# EAGLE library part IC_AM335X_ZCZ_AM33XX_15X15_XAM3 (library BeagleBone_Black_egl)
IC_AM335X_ZCZ_AM33XX_15X15_XAM3
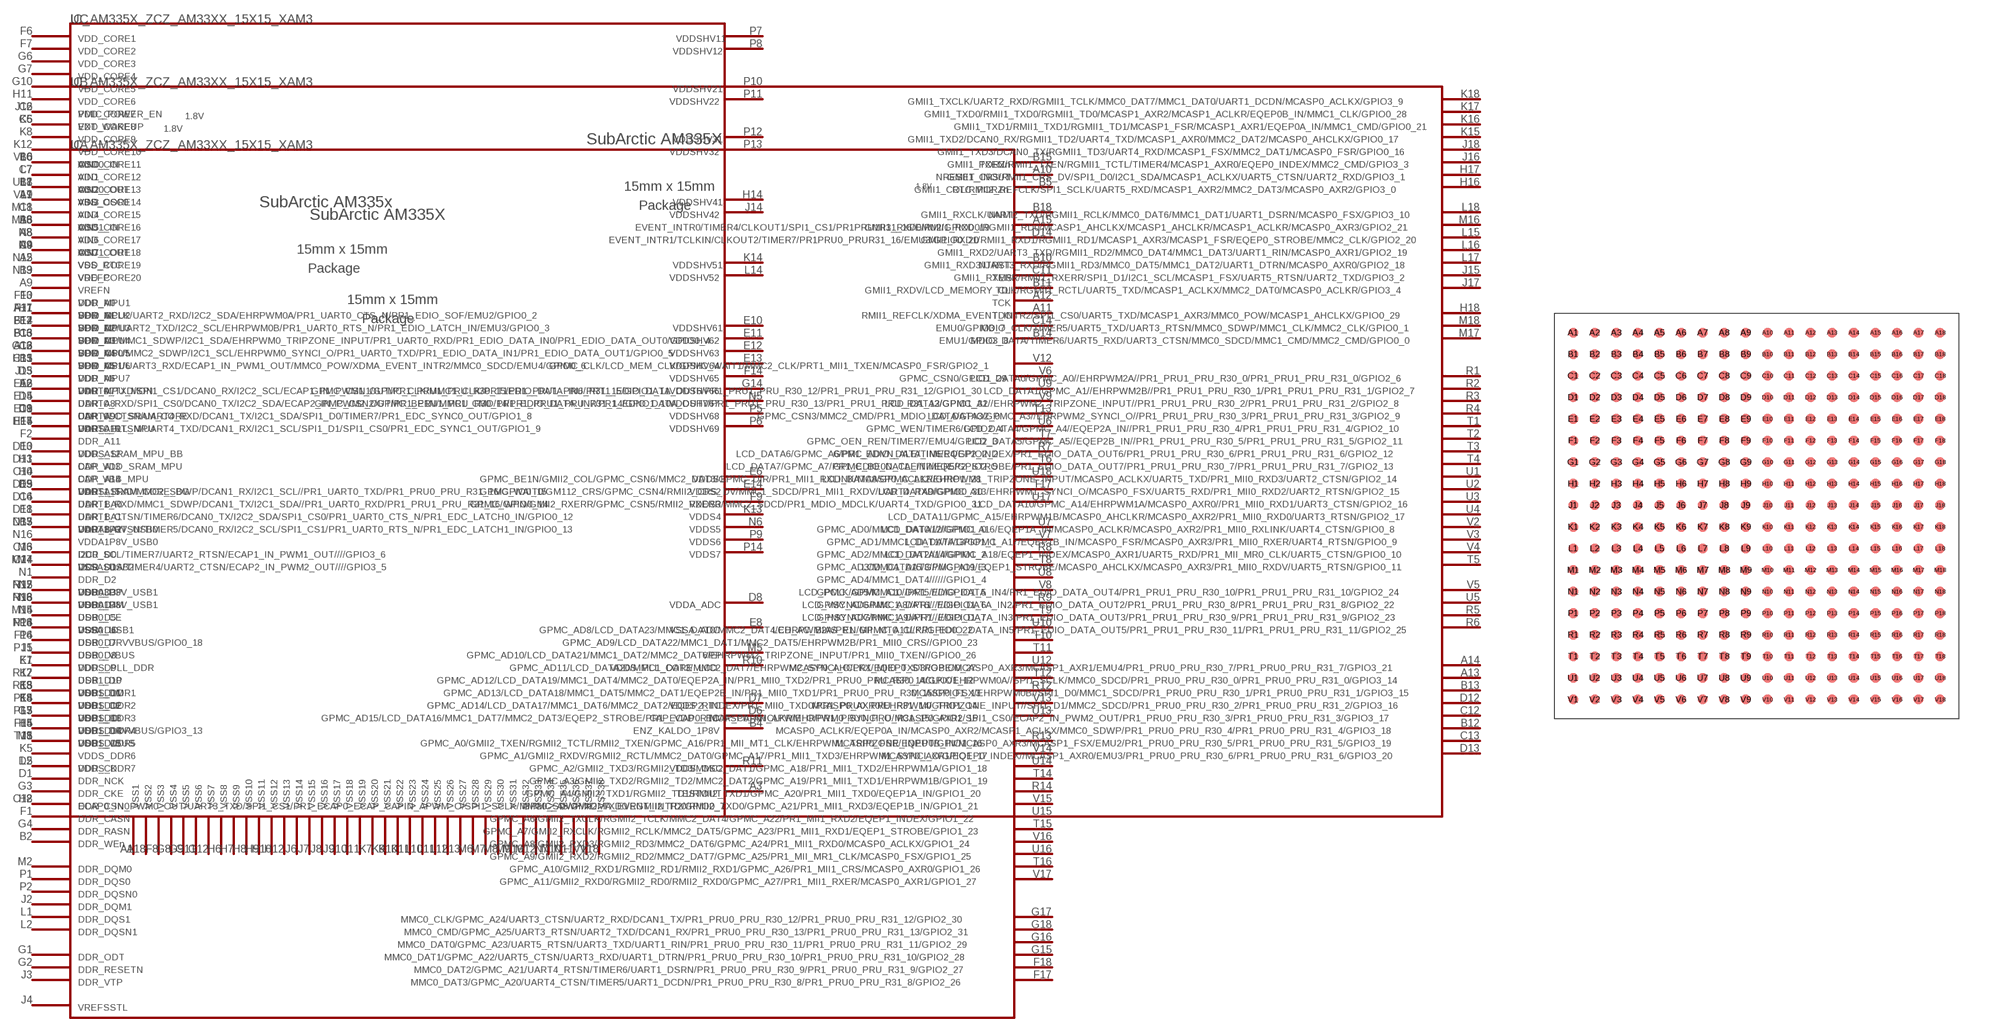
[diagram p7: symbol with the pads of AM33XX_15X15; footprint AM33XX_15X15]

Designator prefix -; gates A=IC_AM335X_ZCZA B=IC_AM335X_ZCZB C=IC_AM335X_ZCZC

## IC_AM335X_ZCZ_AM33XX_15X15_XAM3  [AM33XX_15X15]
A1  C:1
A2  C:121
A3  C:100
A4  A:2
A5  A:109
A6  A:1
A7  B:4
A8  B:7
A9  B:10
A10  A:51
A11  A:59
A12  A:57
A13  B:79
A14  B:78
A15  A:53
A16  B:74
A17  B:71
A18  C:2
B1  A:66
B2  A:97
B3  A:100
B4  C:99
B5  A:116
B6  B:1
B7  B:3
B8  B:6
B9  B:9
B10  A:56
B11  A:58
B12  B:83
B13  B:80
B14  A:108
B15  A:50
B16  B:73
B17  B:72
B18  A:52
C1  A:70
C2  A:65
C3  A:64
C4  A:98
C5  B:77
C6  B:76
C7  B:2
C8  B:5
C9  B:8
C10  C:76
C11  A:55
C12  B:82
C13  B:84
C14  A:60
C15  B:75
C16  B:49
C17  B:50
C18  B:86
D1  A:93
D2  A:92
D3  A:115
D4  A:69
D5  A:67
D6  C:73
D7  C:74
D8  C:72
D9  C:68
D10  C:75
D11  C:77
D12  B:81
D13  B:85
D14  A:54
D15  B:45
D16  B:46
D17  B:48
D18  B:47
E1  A:99
E2  A:68
E3  A:73
E4  A:63
E5  C:90
E6  C:62
E7  C:86
E8  C:87
E9  C:69
E10  C:111
E11  C:112
E12  C:113
E13  C:114
E14  C:63
E15  B:12
E16  B:11
E17  B:14
E18  B:13
F1  A:95
F2  A:72
F3  A:61
F4  A:71
F5  C:91
F6  C:38
F7  C:39
F8  C:4
F9  C:64
F10  C:41
F11  C:44
F12  C:48
F13  C:88
F14  C:115
F15  B:26
F16  B:19
F17  A:49
F18  A:48
G1  A:107
G2  A:113
G3  A:112
G4  A:96
G5  C:92
G6  C:40
G7  C:42
G8  C:6
G9  C:5
G10  C:43
G11  C:14
G12  C:101
G13  C:108
G14  C:116
G15  A:47
G16  A:46
G17  A:44
G18  A:45
H1  A:62
H2  A:94
H3  A:74
H4  A:75
H5  C:93
H6  C:7
H7  C:16
H8  C:18
H9  C:8
H10  C:9
H11  C:45
H12  C:15
H13  C:109
H14  C:59
H15  C:79
H16  B:27
H17  B:28
H18  B:42
J1  A:84
J2  A:104
J3  A:114
J4  A:117
J5  C:89
J6  C:24
J7  C:10
J8  C:11
J9  C:12
J10  C:13
J11  C:27
J12  C:46
J13  C:110
J14  C:58
J15  B:35
J16  B:34
J17  B:36
J18  B:32
K1  A:85
K2  A:86
K3  A:87
K4  A:88
K5  C:94
K6  C:47
K7  C:17
K8  C:97
K9  C:19
K10  C:20
K11  C:21
K12  C:49
K13  C:65
K14  C:60
K15  B:31
K16  B:30
K17  B:29
K18  B:33
L1  A:105
L2  A:106
L3  A:89
L4  A:90
L5  C:95
L6  C:50
L7  C:51
L8  C:52
L9  C:98
L10  C:35
L11  C:23
L12  C:29
L13  C:36
L14  C:61
L15  B:39
L16  B:40
L17  B:41
L18  B:37
M1  A:91
M2  A:101
M3  A:76
M4  A:77
M5  C:78
M6  C:25
M7  C:26
M8  C:3
M9  C:28
M10  C:30
M11  C:102
M12  C:22
M13  C:103
M14  C:85
M15  B:17
M16  B:38
M17  B:44
M18  B:43
N1  A:78
N2  A:79
N3  A:80
N4  A:81
N5  C:117
N6  C:66
N7  C:31
N8  C:104
N9  C:105
N10  C:33
N11  C:34
N12  C:106
N13  C:107
N14  C:82
N15  C:83
N16  C:84
N17  B:15
N18  B:16
P1  A:102
P2  A:103
P3  A:82
P4  A:83
P5  C:118
P6  C:119
P7  C:53
P8  C:54
P9  C:67
P10  C:55
P11  C:96
P12  C:56
P13  C:57
P14  C:120
P15  B:18
P16  B:23
P17  B:22
P18  B:24
R1  B:51
R2  B:52
R3  B:53
R4  B:54
R5  B:69
R6  B:70
R7  A:12
R8  A:18
R9  A:22
R10  C:71
R11  C:70
R12  A:29
R13  A:32
R14  A:36
R15  C:80
R16  C:81
R17  B:20
R18  B:21
T1  B:55
T2  B:56
T3  B:57
T4  B:58
T5  B:66
T6  A:13
T7  A:10
T8  A:19
T9  A:23
T10  A:25
T11  A:26
T12  A:28
T13  A:11
T14  A:35
T15  A:39
T16  A:42
T17  A:15
T18  B:25
U1  B:59
U2  B:60
U3  B:61
U4  B:62
U5  B:68
U6  A:9
U7  A:16
U8  A:20
U9  A:7
U10  A:24
U11  A:4
U12  A:27
U13  A:31
U14  A:34
U15  A:38
U16  A:41
U17  A:111
U18  A:14
V1  C:37
V2  B:63
V3  B:64
V4  B:65
V5  B:67
V6  A:6
V7  A:17
V8  A:21
V9  A:8
V10  A:3
V11  A:110
V12  A:5
V13  A:30
V14  A:33
V15  A:37
V16  A:40
V17  A:43
V18  C:32

## Footprint AM33XX_15X15 (pad centres in mm)
smd 0.356 x 0.356: A1 -6.8,6.8; A2 -6,6.8; A3 -5.2,6.8; A4 -4.4,6.8; A5 -3.6,6.8; A6 -2.8,6.8; A7 -2,6.8; A8 -1.2,6.8; A9 -0.4,6.8; A10 0.4,6.8; A11 1.2,6.8; A12 2,6.8; A13 2.8,6.8; A14 3.6,6.8; A15 4.4,6.8; A16 5.2,6.8; A17 6,6.8; A18 6.8,6.8; B1 -6.8,6; B2 -6,6; B3 -5.2,6; B4 -4.4,6; B5 -3.6,6; B6 -2.8,6; B7 -2,6; B8 -1.2,6; B9 -0.4,6; B10 0.4,6; B11 1.2,6; B12 2,6; B13 2.8,6; B14 3.6,6; B15 4.4,6; B16 5.2,6; B17 6,6; B18 6.8,6; C1 -6.8,5.2; C2 -6,5.2; C3 -5.2,5.2; C4 -4.4,5.2; C5 -3.6,5.2; C6 -2.8,5.2; C7 -2,5.2; C8 -1.2,5.2; C9 -0.4,5.2; C10 0.4,5.2; C11 1.2,5.2; C12 2,5.2; C13 2.8,5.2; C14 3.6,5.2; C15 4.4,5.2; C16 5.2,5.2; C17 6,5.2; C18 6.8,5.2; D1 -6.8,4.4; D2 -6,4.4; D3 -5.2,4.4; D4 -4.4,4.4; D5 -3.6,4.4; D6 -2.8,4.4; D7 -2,4.4; D8 -1.2,4.4; D9 -0.4,4.4; D10 0.4,4.4; D11 1.2,4.4; D12 2,4.4; D13 2.8,4.4; D14 3.6,4.4; D15 4.4,4.4; D16 5.2,4.4; D17 6,4.4; D18 6.8,4.4; E1 -6.8,3.6; E2 -6,3.6; E3 -5.2,3.6; E4 -4.4,3.6; E5 -3.6,3.6; E6 -2.8,3.6; E7 -2,3.6; E8 -1.2,3.6; E9 -0.4,3.6; E10 0.4,3.6; E11 1.2,3.6; E12 2,3.6; E13 2.8,3.6; E14 3.6,3.6; E15 4.4,3.6; E16 5.2,3.6; E17 6,3.6; E18 6.8,3.6; F1 -6.8,2.8; F2 -6,2.8; F3 -5.2,2.8; F4 -4.4,2.8; F5 -3.6,2.8; F6 -2.8,2.8; F7 -2,2.8; F8 -1.2,2.8; F9 -0.4,2.8; F10 0.4,2.8; F11 1.2,2.8; F12 2,2.8; F13 2.8,2.8; F14 3.6,2.8; F15 4.4,2.8; F16 5.2,2.8; F17 6,2.8; F18 6.8,2.8; G1 -6.8,2; G2 -6,2; G3 -5.2,2; G4 -4.4,2; G5 -3.6,2; G6 -2.8,2; G7 -2,2; G8 -1.2,2; G9 -0.4,2; G10 0.4,2; G11 1.2,2; G12 2,2; G13 2.8,2; G14 3.6,2; G15 4.4,2; G16 5.2,2; G17 6,2; G18 6.8,2; H1 -6.8,1.2; H2 -6,1.2; H3 -5.2,1.2; H4 -4.4,1.2; H5 -3.6,1.2; H6 -2.8,1.2; H7 -2,1.2; H8 -1.2,1.2; H9 -0.4,1.2; H10 0.4,1.2; H11 1.2,1.2; H12 2,1.2; H13 2.8,1.2; H14 3.6,1.2; H15 4.4,1.2; H16 5.2,1.2; H17 6,1.2; H18 6.8,1.2; J1 -6.8,0.4; J2 -6,0.4; J3 -5.2,0.4; J4 -4.4,0.4; J5 -3.6,0.4; J6 -2.8,0.4; J7 -2,0.4; J8 -1.2,0.4; J9 -0.4,0.4; J10 0.4,0.4; J11 1.2,0.4; J12 2,0.4; J13 2.8,0.4; J14 3.6,0.4; J15 4.4,0.4; J16 5.2,0.4; J17 6,0.4; J18 6.8,0.4; K1 -6.8,-0.4; K2 -6,-0.4; K3 -5.2,-0.4; K4 -4.4,-0.4; K5 -3.6,-0.4; K6 -2.8,-0.4; K7 -2,-0.4; K8 -1.2,-0.4; K9 -0.4,-0.4; K10 0.4,-0.4; K11 1.2,-0.4; K12 2,-0.4; K13 2.8,-0.4; K14 3.6,-0.4; K15 4.4,-0.4; K16 5.2,-0.4; K17 6,-0.4; K18 6.8,-0.4; L1 -6.8,-1.2; L2 -6,-1.2; L3 -5.2,-1.2; L4 -4.4,-1.2; L5 -3.6,-1.2; L6 -2.8,-1.2; L7 -2,-1.2; L8 -1.2,-1.2; L9 -0.4,-1.2; L10 0.4,-1.2; L11 1.2,-1.2; L12 2,-1.2; L13 2.8,-1.2; L14 3.6,-1.2; L15 4.4,-1.2; L16 5.2,-1.2; L17 6,-1.2; L18 6.8,-1.2; M1 -6.8,-2; M2 -6,-2; M3 -5.2,-2; M4 -4.4,-2; M5 -3.6,-2; M6 -2.8,-2; M7 -2,-2; M8 -1.2,-2; M9 -0.4,-2; M10 0.4,-2; M11 1.2,-2; M12 2,-2; M13 2.8,-2; M14 3.6,-2; M15 4.4,-2; M16 5.2,-2; M17 6,-2; M18 6.8,-2; N1 -6.8,-2.8; N2 -6,-2.8; N3 -5.2,-2.8; N4 -4.4,-2.8; N5 -3.6,-2.8; N6 -2.8,-2.8; N7 -2,-2.8; N8 -1.2,-2.8; N9 -0.4,-2.8; N10 0.4,-2.8; N11 1.2,-2.8; N12 2,-2.8; N13 2.8,-2.8; N14 3.6,-2.8; N15 4.4,-2.8; N16 5.2,-2.8; N17 6,-2.8; N18 6.8,-2.8; P1 -6.8,-3.6; P2 -6,-3.6; P3 -5.2,-3.6; P4 -4.4,-3.6; P5 -3.6,-3.6; P6 -2.8,-3.6; P7 -2,-3.6; P8 -1.2,-3.6; P9 -0.4,-3.6; P10 0.4,-3.6; P11 1.2,-3.6; P12 2,-3.6; P13 2.8,-3.6; P14 3.6,-3.6; P15 4.4,-3.6; P16 5.2,-3.6; P17 6,-3.6; P18 6.8,-3.6; R1 -6.8,-4.4; R2 -6,-4.4; R3 -5.2,-4.4; R4 -4.4,-4.4; R5 -3.6,-4.4; R6 -2.8,-4.4; R7 -2,-4.4; R8 -1.2,-4.4; R9 -0.4,-4.4; R10 0.4,-4.4; R11 1.2,-4.4; R12 2,-4.4; R13 2.8,-4.4; R14 3.6,-4.4; R15 4.4,-4.4; R16 5.2,-4.4; R17 6,-4.4; R18 6.8,-4.4; T1 -6.8,-5.2; T2 -6,-5.2; T3 -5.2,-5.2; T4 -4.4,-5.2; T5 -3.6,-5.2; T6 -2.8,-5.2; T7 -2,-5.2; T8 -1.2,-5.2; T9 -0.4,-5.2; T10 0.4,-5.2; T11 1.2,-5.2; T12 2,-5.2; T13 2.8,-5.2; T14 3.6,-5.2; T15 4.4,-5.2; T16 5.2,-5.2; T17 6,-5.2; T18 6.8,-5.2; U1 -6.8,-6; U2 -6,-6; U3 -5.2,-6; U4 -4.4,-6; U5 -3.6,-6; U6 -2.8,-6; U7 -2,-6; U8 -1.2,-6; U9 -0.4,-6; U10 0.4,-6; U11 1.2,-6; U12 2,-6; U13 2.8,-6; U14 3.6,-6; U15 4.4,-6; U16 5.2,-6; U17 6,-6; U18 6.8,-6; V1 -6.8,-6.8; V2 -6,-6.8; V3 -5.2,-6.8; V4 -4.4,-6.8; V5 -3.6,-6.8; V6 -2.8,-6.8; V7 -2,-6.8; V8 -1.2,-6.8; V9 -0.4,-6.8; V10 0.4,-6.8; V11 1.2,-6.8; V12 2,-6.8; V13 2.8,-6.8; V14 3.6,-6.8; V15 4.4,-6.8; V16 5.2,-6.8; V17 6,-6.8; V18 6.8,-6.8